# Altium schematic symbol library Inductor CMI322513J101KT.Schlib: 1 symbol
Pins are listed as number, name and electrical type; pins without a type are passive.

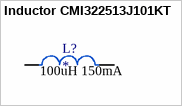
[diagram p0: symbol Inductor CMI322513J101KT]

## Inductor CMI322513J101KT
designator L?  value 100uH 150mA
100uH ±10% 150mA 1.4Ω 1210 Inductors (SMD) RoHS; LCSC Part #: C27775; JLCPCB Part Type: Extended; ComponentLink1Description: LCSC - FH(Guangdong Fenghua Advanced Tech) CMI322513J101KT; ComponentLink1URL: https://lcsc.com/product-detail/Inductors-SMD_Guangdong-Fenghua-Advanced-Tech-CMI322513J101KT_C27775.html/?href=jlc-SMT
footprint CH1210R (Chip Resistor, 2-Leads, Body 3.1x2.6mm, IPC Medium Density)
pins: 1, 2